# Altium schematic symbol library SamacSys.SchLib: 1311 symbols (part 9 of 14)
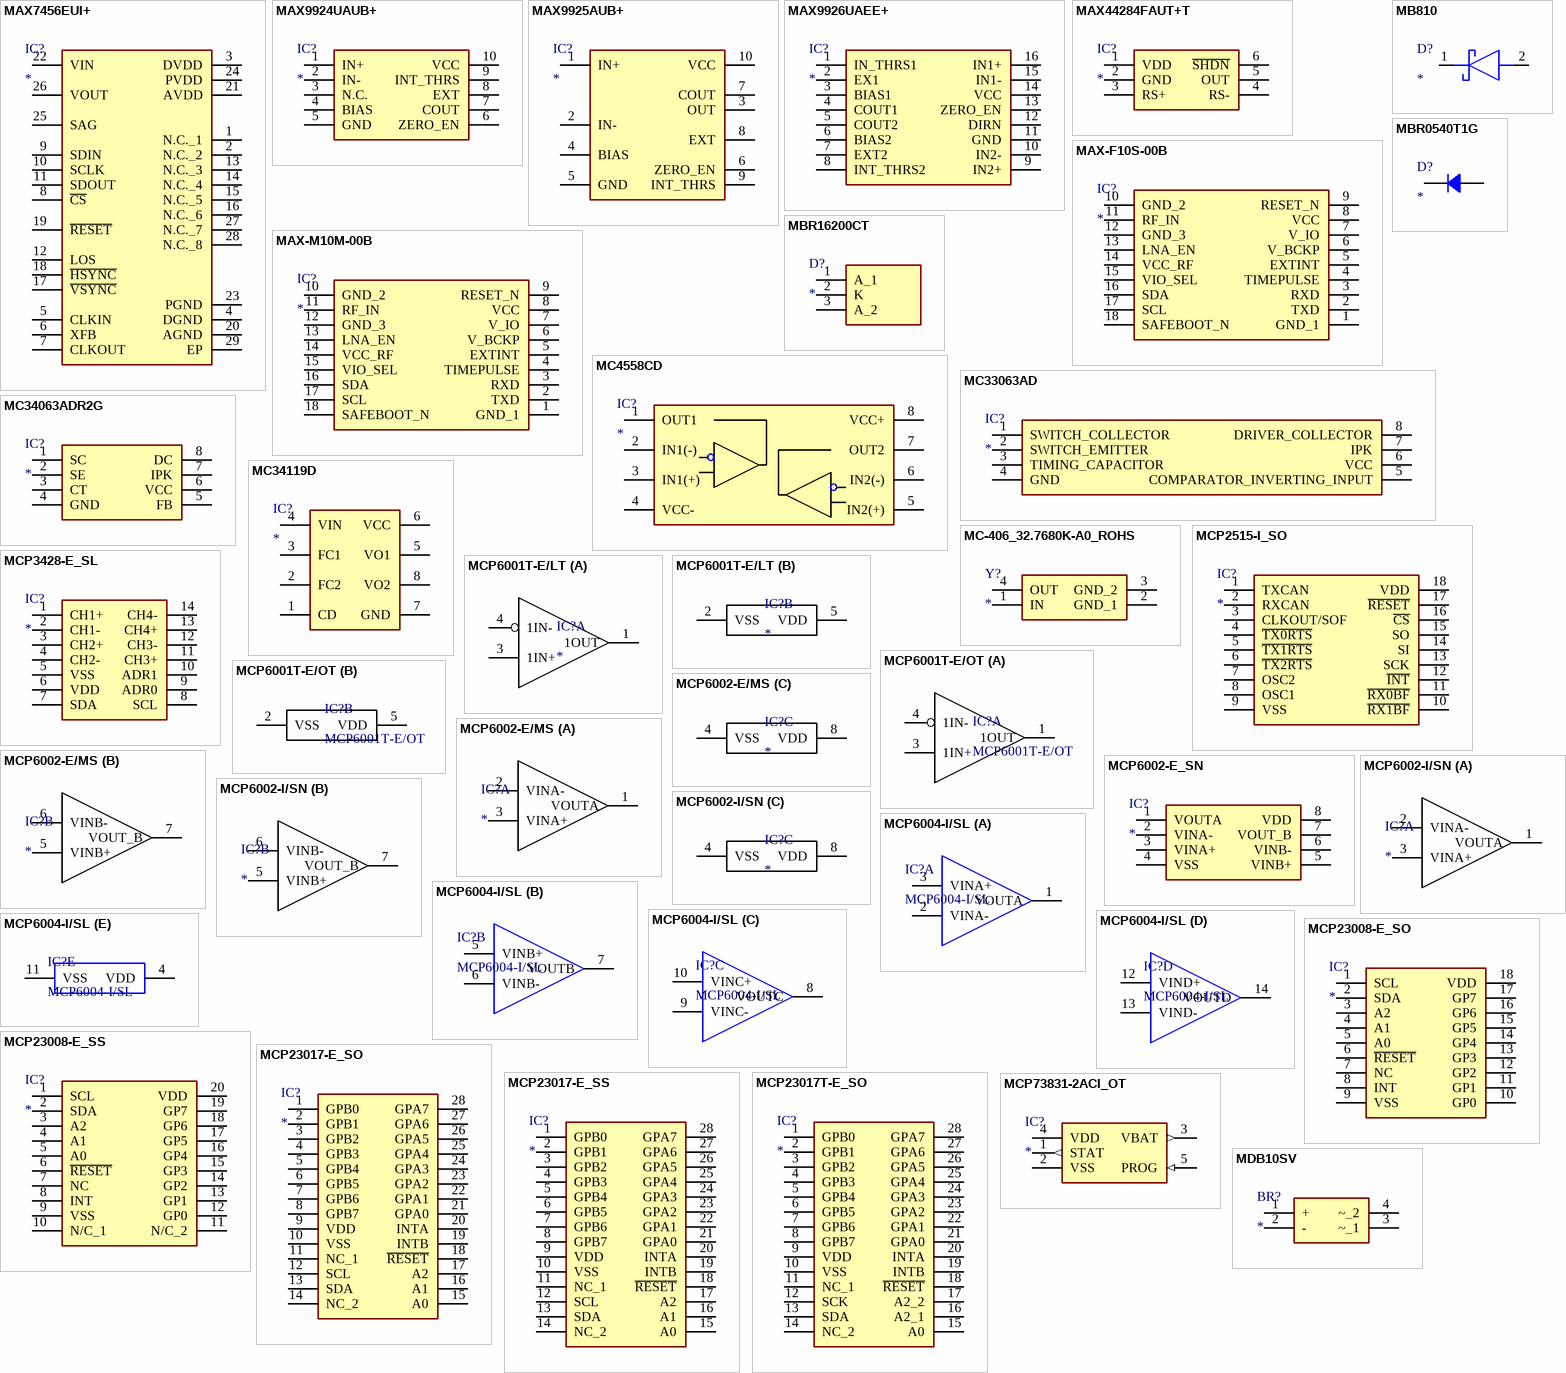
[diagram p58: symbols MAX7456EUI+ to MDB10SV]

## MAX9926UAEE+
designator IC?
Integrated Circuit; Manufacturer_Name: Analog Devices; Manufacturer_Part_Number: MAX9926UAEE+; Datasheet Link: https://datasheets.maximintegrated.com/en/ds/MAX9924-MAX9927.pdf; Height: 1.75mm; Mouser Part Number: 700-MAX9926UAEE; Mouser Price/Stock: https://www.mouser.co.uk/ProductDetail/Analog-Devices-Maxim-Integrated/MAX9926UAEE%2b?qs=CDqwynd4ZNrriQt4q8yT4w%3D%3D; Arrow Part Number: MAX9926UAEE+; Arrow Price/Stock: https://www.arrow.com/en/products/max9926uaee/maxim-integrated?region=nac
footprint SOP64P602X175-16N
pins: 1 IN_THRS1, 2 EX1, 3 BIAS1, 4 COUT1, 5 COUT2, 6 BIAS2, 7 EXT2, 8 INT_THRS2, 9 IN2+, 10 IN2-, 11 GND, 12 DIRN, 13 ZERO_EN, 14 VCC, 15 IN1-, 16 IN1+

## MAX44284FAUT+T
designator IC?
Integrated Circuit; Manufacturer_Name: Analog Devices; Manufacturer_Part_Number: MAX44284FAUT+T; Datasheet Link: https://datasheets.maximintegrated.com/en/ds/MAX44284.pdf; Height: 1.45mm; Arrow Part Number: MAX44284FAUT+T; Arrow Price/Stock: https://www.arrow.com/en/products/max44284fautt/analog-devices?region=nac
footprint SOT95P280X145-6N
pins: 1 VDD, 2 GND, 3 RS+, 4 RS-, 5 OUT, 6 ~{SHDN}

## MAX-F10S-00B
designator IC?
Integrated Circuit; Manufacturer_Name: u-blox; Manufacturer_Part_Number: MAX-F10S-00B; Datasheet Link: https://www.mouser.ph/ProductDetail/u-blox/MAX-F10S-00B?qs=By6Nw2ByBD2CW%252Biwf2Kjow%3D%3D; Height: 2.7mm
footprint MAXF10S00B (Footprint not found)
pins: 1 GND_1, 2 TXD, 3 RXD, 4 TIMEPULSE, 5 EXTINT, 6 V_BCKP, 7 V_IO, 8 VCC, 9 RESET_N, 10 GND_2, 11 RF_IN, 12 GND_3, 13 LNA_EN, 14 VCC_RF, 15 VIO_SEL, 16 SDA, 17 SCL, 18 SAFEBOOT_N

## MAX-M10M-00B
designator IC?
Integrated Circuit; Manufacturer_Name: u-blox; Manufacturer_Part_Number: MAX-M10M-00B; Datasheet Link: https://content.u-blox.com/sites/default/files/documents/MAX-M10M_IntegrationManual_UBX-22038241.pdf; Height: 2.7mm; Mouser Part Number: 377-MAX-M10M-00B; Mouser Price/Stock: https://www.mouser.co.uk/ProductDetail/u-blox/MAX-M10M-00B?qs=A6eO%252BMLsxmQGh8%2FJ1ZmexA%3D%3D
footprint MAXM10M00B
pins: 1 GND_1, 2 TXD, 3 RXD, 4 TIMEPULSE, 5 EXTINT, 6 V_BCKP, 7 V_IO, 8 VCC, 9 RESET_N, 10 GND_2, 11 RF_IN, 12 GND_3, 13 LNA_EN, 14 VCC_RF, 15 VIO_SEL, 16 SDA, 17 SCL, 18 SAFEBOOT_N

## MB810
designator D?
Schottky Diode; Manufacturer_Name: PANJIT; Manufacturer_Part_Number: MB810; Datasheet Link: https://www.panjit.com.tw/en/Product/downloadPDF/MB810; Height: 2.62mm
footprint DIOM7959X262N
pins: 1 K, 2 A

## MBR0540T1G
designator D?
Diode; Manufacturer_Name: onsemi; Manufacturer_Part_Number: MBR0540T1G; Datasheet Link: http://www.onsemi.com/pub/Collateral/MBR0540T1-D.PDF; Height: 1.35mm; Mouser Part Number: 863-MBR0540T1G; Mouser Price/Stock: https://www.mouser.co.uk/ProductDetail/onsemi/MBR0540T1G?qs=3JMERSakebqeY0cO5%252BUPCQ%3D%3D; Arrow Part Number: MBR0540T1G; Arrow Price/Stock: https://www.arrow.com/en/products/mbr0540t1g/on-semiconductor?region=nac
footprint SOD3716X135N
pins: 1, 2 12

## MBR16200CT
designator D?
Schottky Diode; Manufacturer_Name: PANJIT; Manufacturer_Part_Number: MBR16200CT; Datasheet Link: https://www.panjit.com.tw/en/Product/downloadPDF/MBR16200CT; Height: 5mm
footprint TO254P500X1026X2147-3P
pins: 1 A_1, 2 K, 3 A_2

## MC4558CD
designator IC?
Integrated Circuit; Manufacturer_Name: STMicroelectronics; Manufacturer_Part_Number: MC4558CD; Datasheet Link: https://componentsearchengine.com/Datasheets/2/MC4558CD.pdf; Height: 1.75mm; Mouser Part Number: 511-MC4558CD; Mouser Price/Stock: https://www.mouser.co.uk/ProductDetail/STMicroelectronics/MC4558CD?qs=vqk%252BPKT8fSwaXkSAspcf7w%3D%3D; Arrow Part Number: MC4558CD; Arrow Price/Stock: https://www.arrow.com/en/products/mc4558cd/stmicroelectronics
footprint SOIC127P600X175-8N
pins: 1 OUT1, 2 IN1(-), 3 IN1(+), 4 VCC-, 5 IN2(+), 6 IN2(-), 7 OUT2, 8 VCC+

## MC33063AD
designator IC?
Integrated Circuit; Manufacturer_Name: Texas Instruments; Manufacturer_Part_Number: MC33063AD; Datasheet Link: http://www.ti.com/lit/gpn/mc33063a; Height: 1.75mm; Mouser Part Number: 595-MC33063AD; Mouser Price/Stock: https://www.mouser.co.uk/ProductDetail/Texas-Instruments/MC33063AD?qs=paYhMW8qfisiajeCWlaWEQ%3D%3D; Arrow Part Number: MC33063AD; Arrow Price/Stock: https://www.arrow.com/en/products/mc33063ad/texas-instruments?region=nac
footprint SOIC127P600X175-8N
pins: 1 SWITCH_COLLECTOR, 2 SWITCH_EMITTER, 3 TIMING_CAPACITOR, 4 GND, 5 COMPARATOR_INVERTING_INPUT, 6 VCC, 7 IPK, 8 DRIVER_COLLECTOR

## MC34063ADR2G
designator IC?
Integrated Circuit; Manufacturer_Name: onsemi; Manufacturer_Part_Number: MC34063ADR2G; Datasheet Link: https://www.onsemi.com/pub/Collateral/MC34063A-D.PDF; Height: 1.75mm; Mouser Part Number: 863-MC34063ADR2G; Mouser Price/Stock: https://www.mouser.co.uk/ProductDetail/onsemi/MC34063ADR2G?qs=dFKnUM%2FquJbf5lc6maZo6Q%3D%3D; Arrow Part Number: MC34063ADR2G; Arrow Price/Stock: https://www.arrow.com/en/products/mc34063adr2g/on-semiconductor?region=nac
footprint SOIC127P600X175-8N
pins: 1 SC, 2 SE, 3 CT, 4 GND, 5 FB, 6 VCC, 7 IPK, 8 DC

## MC34119D
designator IC?
Integrated Circuit; Manufacturer_Name: onsemi; Manufacturer_Part_Number: MC34119D; Height: 1.75mm
footprint SOIC127P600X175-8N
pins: 1 CD, 2 FC2, 3 FC1, 4 VIN, 5 VO1, 6 VCC, 7 GND, 8 VO2

## MC-406_32.7680K-A0_ROHS
designator Y?
Crystal or Oscillator; Manufacturer_Name: Epson Timing; Manufacturer_Part_Number: MC-406 32.7680K-A0:ROHS; Datasheet Link: https://componentsearchengine.com/Datasheets/1/MC-406 32.7680K-A0_ROHS.pdf; Height: 3.6mm; Mouser Part Number: 732-MC406-32.7KA0R; Mouser Price/Stock: https://www.mouser.co.uk/ProductDetail/Epson-Timing/MC-406-32.7680K-A0ROHS?qs=CU9taR8hkvYYgurnXSUAFA%3D%3D; Arrow Part Number: MC-406 32.7680K-A0:ROHS; Arrow Price/Stock: https://www.arrow.com/en/products/mc-406-32.7680k-a0rohs/epson-electronics-america
footprint MC406327680KA0ROHS
pins: 1 IN, 2 GND_1, 3 GND_2, 4 OUT

## MCP2515-I_SO
designator IC?
Integrated Circuit; Manufacturer_Name: Microchip; Manufacturer_Part_Number: MCP2515-I/SO; Datasheet Link: https://datasheet.datasheetarchive.com/originals/distributors/Datasheets-34/DSA-675138.pdf; Height: 2.65mm; Mouser Part Number: 579-MCP2515-I/SO; Mouser Price/Stock: https://www.mouser.co.uk/ProductDetail/Microchip-Technology/MCP2515-I-SO?qs=KwArPi4cUogGDbGnphOvtQ%3D%3D; Arrow Part Number: MCP2515-I/SO; Arrow Price/Stock: https://www.arrow.com/en/products/mcp2515-iso/microchip-technology?utm_currency=USD&region=europe
footprint SOIC127P1030X265-18N
pins: 1 TXCAN, 2 RXCAN, 3 CLKOUT/SOF, 4 ~{TX0RTS}, 5 ~{TX1RTS}, 6 ~{TX2RTS}, 7 OSC2, 8 OSC1, 9 VSS, 10 ~{RX1BF}, 11 ~{RX0BF}, 12 ~{INT}, 13 SCK, 14 SI, 15 SO, 16 ~{CS}, 17 ~{RESET}, 18 VDD

## MCP3428-E_SL
designator IC?
Integrated Circuit; Manufacturer_Name: Microchip; Manufacturer_Part_Number: MCP3428-E/SL; Datasheet Link: https://datasheet.datasheetarchive.com/originals/distributors/Datasheets-DGA17/1031155.pdf; Height: 1.75mm; Mouser Part Number: 579-MCP3428E/SL; Mouser Price/Stock: https://www.mouser.co.uk/ProductDetail/Microchip-Technology/MCP3428-E-SL?qs=icxrp76fIjD%2FAq4p7ExZpg%3D%3D; Arrow Part Number: MCP3428-E/SL; Arrow Price/Stock: https://www.arrow.com/en/products/mcp3428-esl/microchip-technology?region=nac
footprint SOIC127P600X175-14N
pins: 1 CH1+, 2 CH1-, 3 CH2+, 4 CH2-, 5 VSS, 6 VDD, 7 SDA, 8 SCL, 9 ADR0, 10 ADR1, 11 CH3+, 12 CH3-, 13 CH4+, 14 CH4-

## MCP6001T-E/LT
designator IC?
Integrated Circuit; Manufacturer_Name: Microchip; Manufacturer_Part_Number: MCP6001T-E/LT; Datasheet Link: https://datasheet.datasheetarchive.com/originals/distributors/SFDatasheet-4/sf-00090086.pdf; Height: 1.1mm; Mouser Part Number: 579-MCP6001T-E/LT; Mouser Price/Stock: https://www.mouser.co.uk/ProductDetail/Microchip-Technology/MCP6001T-E-LT?qs=npqfqDPP3%2FyPEQJ8celGXw%3D%3D; Arrow Part Number: MCP6001T-E/LT; Arrow Price/Stock: https://www.arrow.com/en/products/mcp6001t-elt/microchip-technology?region=nac
footprint SOT65P210X110-5N
part A pins: 1 1OUT, 3 1IN+, 4 1IN-
part B pins: 2 VSS, 5 VDD

## MCP6001T-E/OT
designator IC?
IC OPAMP R2R GP 1 CIRCUIT SOT23-5; Manufacturer_Name: Microchip; Manufacturer_Part_Number: MCP6001T-E/LT; Datasheet Link: https://datasheet.datasheetarchive.com/originals/distributors/SFDatasheet-4/sf-00090086.pdf; Height: 1.1mm; Mouser Part Number: 579-MCP6001T-E/LT; Mouser Price/Stock: https://www.mouser.co.uk/ProductDetail/Microchip-Technology/MCP6001T-E-LT?qs=npqfqDPP3%2FyPEQJ8celGXw%3D%3D; Arrow Part Number: MCP6001T-E/LT; Arrow Price/Stock: https://www.arrow.com/en/products/mcp6001t-elt/microchip-technology?region=nac
footprint SOT95P270X145-5N
part A pins: 1 1OUT, 3 1IN+, 4 1IN-
part B pins: 2 VSS, 5 VDD

## MCP6002-E/MS
designator IC?
Integrated Circuit, OP Amp; Manufacturer_Name: Microchip; Manufacturer_Part_Number: MCP6002-E/MS; Datasheet Link: https://datasheet.datasheetarchive.com/originals/distributors/Datasheets-304/55313.pdf; Height: 1.1mm; Mouser Part Number: 579-MCP6002-E/MS; Mouser Price/Stock: https://www.mouser.co.uk/ProductDetail/Microchip-Technology-Atmel/MCP6002-E-MS?qs=huzeVNXgovXv0kPjGdVLUA%3D%3D; Arrow Part Number: MCP6002-E/MS; Arrow Price/Stock: https://www.arrow.com/en/products/mcp6002-ems/microchip-technology?region=europe
footprint SOP65P490X110-8N
part A pins: 1 VOUTA, 2 VINA-, 3 VINA+
part B pins: 5 VINB+, 6 VINB-, 7 VOUT_B
part C pins: 4 VSS, 8 VDD

## MCP6002-E_SN
designator IC?
Integrated Circuit; Manufacturer_Name: Microchip; Manufacturer_Part_Number: MCP6002-E/SN; Datasheet Link: https://datasheet.datasheetarchive.com/originals/distributors/Datasheets-DGA24/1612149.pdf; Height: 1.75mm; Mouser Part Number: 579-MCP6002-E/SN; Mouser Price/Stock: https://www.mouser.co.uk/ProductDetail/Microchip-Technology/MCP6002-E-SN?qs=huzeVNXgovUiJ9mzyA%252B5pA%3D%3D; Arrow Part Number: MCP6002-E/SN; Arrow Price/Stock: https://www.arrow.com/en/products/mcp6002-esn/microchip-technology?region=nac
footprint SOIC127P600X175-8N
pins: 1 VOUTA, 2 VINA-, 3 VINA+, 4 VSS, 5 VINB+, 6 VINB-, 7 VOUT_B, 8 VDD

## MCP6002-I/SN
designator IC?
Integrated Circuit, OP Amp; Manufacturer_Name: Microchip; Manufacturer_Part_Number: MCP6002-E/MS; Datasheet Link: https://datasheet.datasheetarchive.com/originals/distributors/Datasheets-304/55313.pdf; Height: 1.1mm; Mouser Part Number: 579-MCP6002-E/MS; Mouser Price/Stock: https://www.mouser.co.uk/ProductDetail/Microchip-Technology-Atmel/MCP6002-E-MS?qs=huzeVNXgovXv0kPjGdVLUA%3D%3D; Arrow Part Number: MCP6002-E/MS; Arrow Price/Stock: https://www.arrow.com/en/products/mcp6002-ems/microchip-technology?region=europe
footprint SOIC127P600X170-8N
part A pins: 1 VOUTA, 2 VINA-, 3 VINA+
part B pins: 5 VINB+, 6 VINB-, 7 VOUT_B
part C pins: 4 VSS, 8 VDD

## MCP6004-I/SL
designator IC?
IC OP AMP 4CH R2R +3.3-5V; Manufacturer_Name: Microchip; Datasheet Link: https://datasheet.datasheetarchive.com/originals/distributors/Datasheets-DGA24/1612149.pdf; Height: 1.75mm; Manufacturer_Part_Number: MCP6004-I/SL; Mouser Part Number: 579-MCP6004-I/SL; Mouser Price/Stock: https://www.mouser.co.uk/ProductDetail/Microchip-Technology/MCP6004-I-SL?qs=n%2FfJlMG9rCZ2%2F%2FCryvZ52w%3D%3D; Arrow Part Number: MCP6004-I/SL; Arrow Price/Stock: https://www.arrow.com/en/products/mcp6004-isl/microchip-technology?region=nac
footprint SOIC127P600X175-14N
part A pins: 1 VOUTA, 2 VINA-, 3 VINA+
part B pins: 5 VINB+, 6 VINB-, 7 VOUTB
part C pins: 8 VOUTC, 9 VINC-, 10 VINC+
part D pins: 12 VIND+, 13 VIND-, 14 VOUTD
part E pins: 4 VDD, 11 VSS

## MCP23008-E_SO
designator IC?
Integrated Circuit; Manufacturer_Name: Microchip; Manufacturer_Part_Number: MCP23008-E/SO; Datasheet Link: https://datasheet.datasheetarchive.com/originals/distributors/SFDatasheet-4/sf-00090055.pdf; Height: 2.65mm; Mouser Part Number: 579-MCP23008-E/SO; Mouser Price/Stock: https://www.mouser.co.uk/ProductDetail/Microchip-Technology/MCP23008-E-SO?qs=Sez7gRs8XSWum74ZwQXTLw%3D%3D; Arrow Part Number: MCP23008-E/SO; Arrow Price/Stock: https://www.arrow.com/en/products/mcp23008-eso/microchip-technology?region=nac
footprint SOIC127P1030X265-18N
pins: 1 SCL, 2 SDA, 3 A2, 4 A1, 5 A0, 6 ~{RESET}, 7 NC, 8 INT, 9 VSS, 10 GP0, 11 GP1, 12 GP2, 13 GP3, 14 GP4, 15 GP5, 16 GP6, 17 GP7, 18 VDD

## MCP23008-E_SS
designator IC?
IC XPNDR 1.7MHZ I2C 20SSOP; Manufacturer_Name: Microchip; Manufacturer_Part_Number: MCP23008-E/SS; Datasheet Link: https://datasheet.datasheetarchive.com/originals/distributors/SFDatasheet-4/sf-00090055.pdf; Height: 2mm; Mouser Part Number: 579-MCP23008-E/SS; Mouser Price/Stock: https://www.mouser.co.uk/ProductDetail/Microchip-Technology/MCP23008-E-SS?qs=Sez7gRs8XSU%2FXF8up%2FiqvA%3D%3D; Arrow Part Number: MCP23008-E/SS; Arrow Price/Stock: https://www.arrow.com/en/products/mcp23008-ess/microchip-technology?region=nac
footprint SOP65P780X200-20N
pins: 1 SCL, 2 SDA, 3 A2, 4 A1, 5 A0, 6 ~{RESET}, 7 NC, 8 INT, 9 VSS, 10 N/C_1, 11 N/C_2, 12 GP0, 13 GP1, 14 GP2, 15 GP3, 16 GP4, 17 GP5, 18 GP6, 19 GP7, 20 VDD

## MCP23017-E_SO
designator IC?
Integrated Circuit; Manufacturer_Name: Microchip; Manufacturer_Part_Number: MCP23017-E/SO; Datasheet Link: https://datasheet.datasheetarchive.com/originals/distributors/SFDatasheet-4/sf-00090057.pdf; Height: 2.65mm; Mouser Part Number: 579-MCP23017-E/SO; Mouser Price/Stock: https://www.mouser.co.uk/ProductDetail/Microchip-Technology/MCP23017-E-SO?qs=usxtMOJb1Rz8hft7vV7YMQ%3D%3D; Arrow Part Number: MCP23017-E/SO; Arrow Price/Stock: https://www.arrow.com/en/products/mcp23017-eso/microchip-technology.html?utm_currency=USD&region=nac
footprint SOIC127P1030X265-28N
pins: 1 GPB0, 2 GPB1, 3 GPB2, 4 GPB3, 5 GPB4, 6 GPB5, 7 GPB6, 8 GPB7, 9 VDD, 10 VSS, 11 NC_1, 12 SCL, 13 SDA, 14 NC_2, 15 A0, 16 A1, 17 A2, 18 ~{RESET}, 19 INTB, 20 INTA, 21 GPA0, 22 GPA1, 23 GPA2, 24 GPA3, 25 GPA4, 26 GPA5, 27 GPA6, 28 GPA7

## MCP23017-E_SS
designator IC?
Integrated Circuit; Manufacturer_Name: Microchip; Manufacturer_Part_Number: MCP23017-E/SS; Datasheet Link: https://datasheet.datasheetarchive.com/originals/distributors/SFDatasheet-4/sf-00090057.pdf; Height: 2mm; Mouser Part Number: 579-MCP23017-E/SS; Mouser Price/Stock: https://www.mouser.co.uk/ProductDetail/Microchip-Technology/MCP23017-E-SS?qs=usxtMOJb1Ry4iqG%2FOK9gBg%3D%3D; Arrow Part Number: MCP23017-E/SS; Arrow Price/Stock: https://www.arrow.com/en/products/mcp23017-ess/microchip-technology.html?utm_currency=USD&region=europe
footprint SOP65P780X200-28N
pins: 1 GPB0, 2 GPB1, 3 GPB2, 4 GPB3, 5 GPB4, 6 GPB5, 7 GPB6, 8 GPB7, 9 VDD, 10 VSS, 11 NC_1, 12 SCL, 13 SDA, 14 NC_2, 15 A0, 16 A1, 17 A2, 18 ~{RESET}, 19 INTB, 20 INTA, 21 GPA0, 22 GPA1, 23 GPA2, 24 GPA3, 25 GPA4, 26 GPA5, 27 GPA6, 28 GPA7

## MCP23017T-E_SO
designator IC?
Integrated Circuit; Manufacturer_Name: Microchip; Manufacturer_Part_Number: MCP23017T-E/SO; Datasheet Link: http://ww1.microchip.com/downloads/en/DeviceDoc/20001952C.pdf; Height: 2.65mm; Mouser Part Number: 579-MCP23017T-E/SO; Mouser Price/Stock: https://www.mouser.co.uk/ProductDetail/Microchip-Technology/MCP23017T-E-SO?qs=usxtMOJb1RylPfT%252BJtgE3Q%3D%3D; Arrow Part Number: MCP23017T-E/SO; Arrow Price/Stock: https://www.arrow.com/en/products/mcp23017t-eso/microchip-technology?region=nac
footprint SOIC127P1030X265-28N
pins: 1 GPB0, 2 GPB1, 3 GPB2, 4 GPB3, 5 GPB4, 6 GPB5, 7 GPB6, 8 GPB7, 9 VDD, 10 VSS, 11 NC_1, 12 SCK, 13 SDA, 14 NC_2, 15 A0, 16 A2_1, 17 A2_2, 18 ~{RESET}, 19 INTB, 20 INTA, 21 GPA0, 22 GPA1, 23 GPA2, 24 GPA3, 25 GPA4, 26 GPA5, 27 GPA6, 28 GPA7

## MCP73831-2ACI_OT
designator IC?
Integrated Circuit; Manufacturer_Name: Microchip; Manufacturer_Part_Number: MCP73831-2ACI/OT; Datasheet Link: https://4donline.ihs.com/images/VipMasterIC/IC/MCHP/MCHPS05344/MCHPS05344-1.pdf?hkey=EF798316E3902B6ED9A73243A3159BB0; Height: 1.45mm
footprint SOT95P280X145-5N
pins: 1 STAT (out), 2 VSS (power), 3 VBAT (out), 4 VDD (power), 5 PROG (in)

## MDB10SV
designator BR?
Bridge Rectifier; Manufacturer_Name: ON Semiconductor; Manufacturer_Part_Number: MDB10SV; Datasheet Link: http://www.onsemi.com/pub/Collateral/MDB10SVJP-D.pdf; Height: 1.6mm; Mouser Part Number: 512-MDB10SV; Mouser Price/Stock: https://www.mouser.com/Search/Refine.aspx?Keyword=512-MDB10SV; Arrow Part Number: MDB10SV; Arrow Price/Stock: https://www.arrow.com/en/products/mdb10sv/on-semiconductor
footprint SOP400P650X160-4N
pins: 1 +, 2 -, 3 ~_1, 4 ~_2

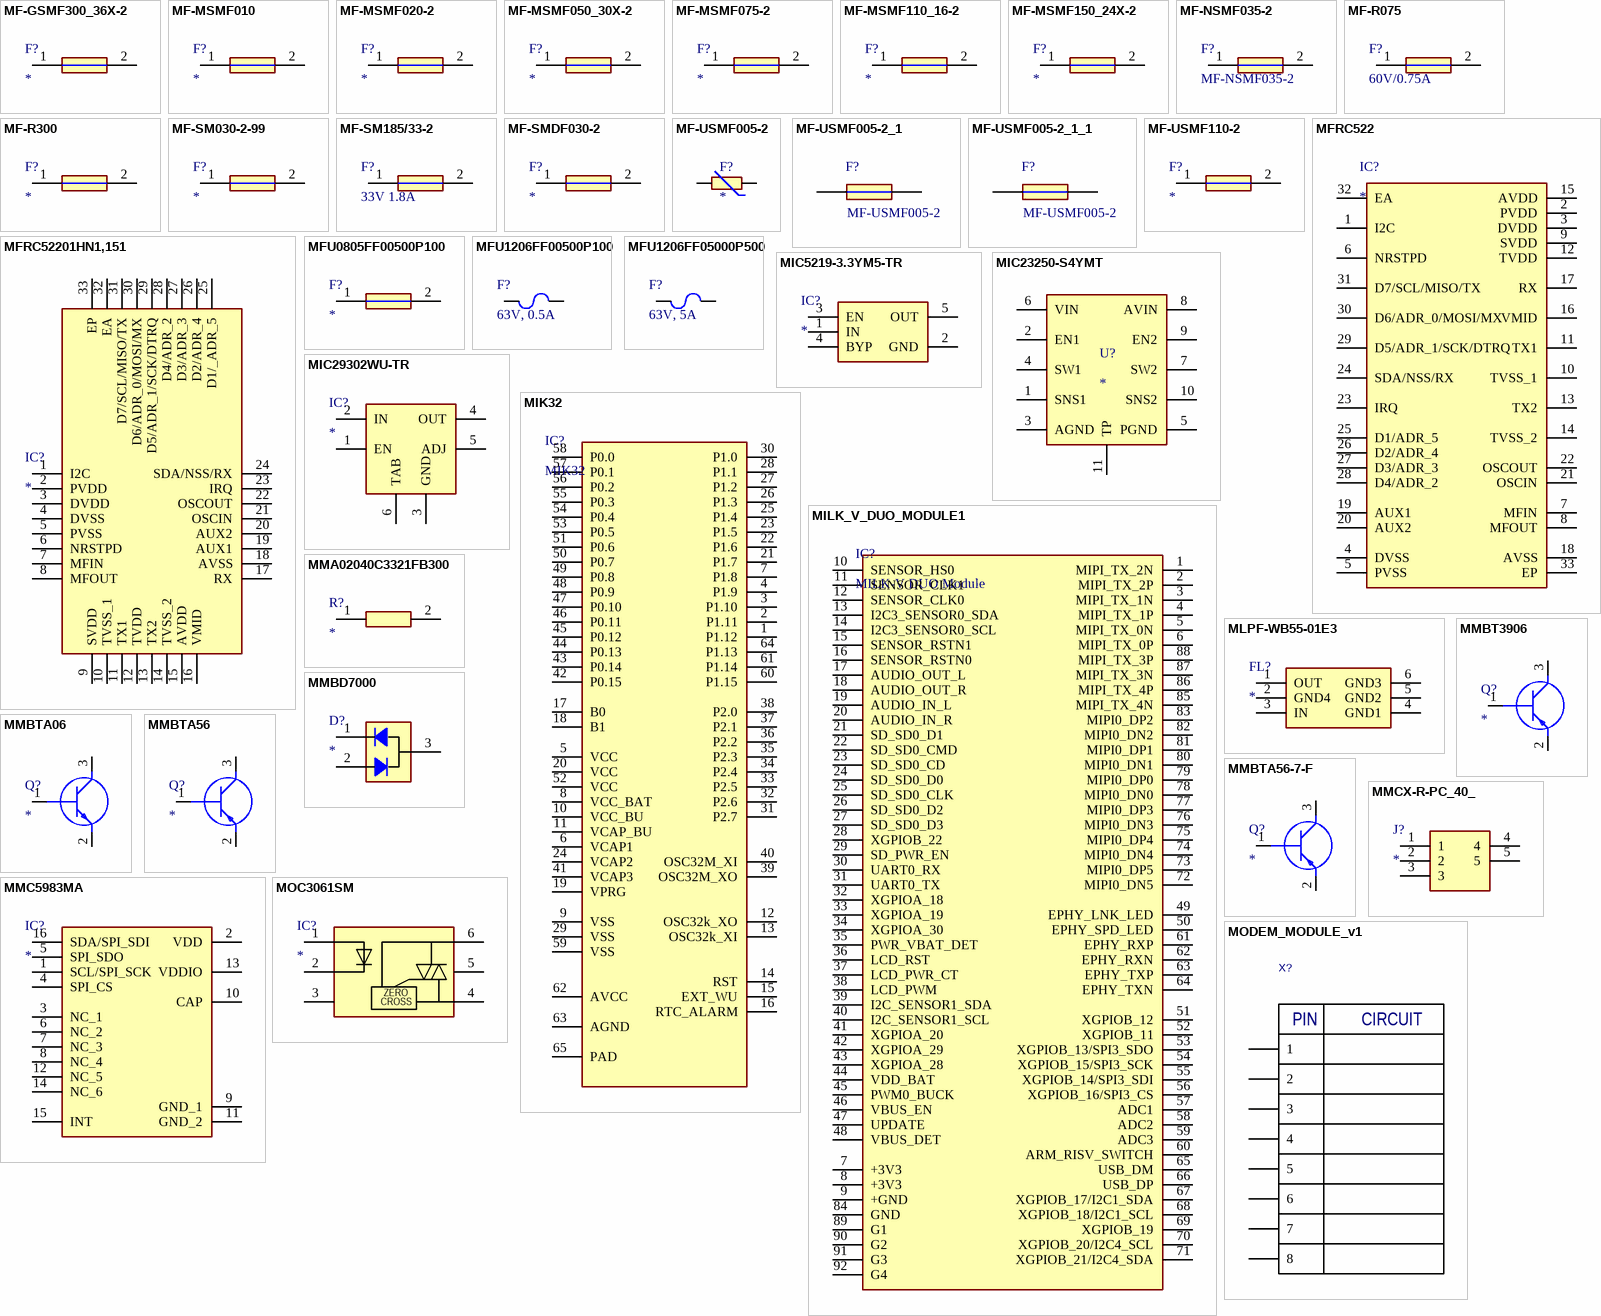
[diagram p30: symbols MF-GSMF300_36X-2 to MODEM_MODULE_v1]

## MF-GSMF300_36X-2
designator F?
Fuse; Manufacturer_Name: Bourns; Manufacturer_Part_Number: MF-GSMF300/36X-2; Datasheet Link: https://www.bourns.com/docs/Product-Datasheets/MF-GSMF.pdf; Height: 1.6mm; Mouser Part Number: 652-MF-GSMF300/36X-2; Mouser Price/Stock: https://www.mouser.co.uk/ProductDetail/Bourns/MF-GSMF300-36X-2?qs=EBDBlbfErPwCDMN8nNbjZA%3D%3D; Arrow Part Number: MF-GSMF300/36X-2; Arrow Price/Stock: https://www.arrow.com/en/products/mf-gsmf30036x-2/bourns?region=nac
footprint MFGSMF30036X2
pins: 1, 2

## MF-MSMF010
designator F?
Fuse; Manufacturer_Name: Bourns; Manufacturer_Part_Number: MF-MSMF010; Datasheet Link: https://www.bourns.com/docs/Product-Datasheets/mfmsmf.pdf; Height: 1.1mm
footprint FUSC4632X110N
pins: 1, 2

## MF-MSMF020-2
designator F?
Fuse; Manufacturer_Name: Bourns; Manufacturer_Part_Number: MF-MSMF020-2; Datasheet Link: https://datasheet.datasheetarchive.com/originals/distributors/Datasheets-7/DSA-122410.pdf; Height: 0.3mm; Mouser Part Number: 652-MF-MSMF020-2; Mouser Price/Stock: https://www.mouser.co.uk/ProductDetail/Bourns/MF-MSMF020-2?qs=YYkh393lUtjbPn24kFIUNQ%3D%3D; Arrow Part Number: MF-MSMF020-2; Arrow Price/Stock: https://www.arrow.com/en/products/mf-msmf020-2/bourns?utm_currency=USD&region=europe
footprint FUSC4632X30N
pins: 1, 2

## MF-MSMF050_30X-2
designator F?
Fuse; Manufacturer_Name: Bourns; Manufacturer_Part_Number: MF-MSMF050/30X-2; Datasheet Link: https://componentsearchengine.com/Datasheets/1/MF-MSMF050_30X-2.pdf; Height: 0.85mm; Mouser Part Number: 652-MF-MSMF050/30X-2; Mouser Price/Stock: https://www.mouser.co.uk/ProductDetail/Bourns/MF-MSMF050-30X-2?qs=7LNk%2FT4eT0selfRLt1pNxQ%3D%3D; Arrow Part Number: MF-MSMF050/30X-2; Arrow Price/Stock: https://www.arrow.com/en/products/mf-msmf05030x-2/bourns?utm_currency=USD&region=nac
footprint FUSC4632X85N
pins: 1, 2

## MF-MSMF075-2
designator F?
Fuse; Manufacturer_Name: Bourns; Manufacturer_Part_Number: MF-MSMF075-2; Datasheet Link: https://www.bourns.com/pdfs/mfmsmf.pdf; Height: 0.85mm; Mouser Part Number: 652-MF-MSMF075-2; Mouser Price/Stock: https://www.mouser.co.uk/ProductDetail/Bourns/MF-MSMF075-2?qs=IoIjxgSWmn0VfZs9PqWlxA%3D%3D; Arrow Part Number: MF-MSMF075-2; Arrow Price/Stock: https://www.arrow.com/en/products/mf-msmf075-2/bourns?region=nac
footprint FUSC4632X85N
pins: 1, 2

## MF-MSMF110_16-2
designator F?
Fuse; Manufacturer_Name: Bourns; Manufacturer_Part_Number: MF-MSMF110/16-2; Datasheet Link: https://componentsearchengine.com/Datasheets/2/MF-MSMF110_16-2.pdf; Height: 0.85mm; Mouser Part Number: 652-MF-MSMF110/16-2; Mouser Price/Stock: https://www.mouser.co.uk/ProductDetail/Bourns/MF-MSMF110-16-2?qs=wksszfECgvir54ST3ixUHA%3D%3D; Arrow Part Number: MF-MSMF110/16-2; Arrow Price/Stock: https://www.arrow.com/en/products/mf-msmf11016-2/bourns?region=europe
footprint FUSC4632X85N
pins: 1, 2

## MF-MSMF150_24X-2
designator F?
Fuse; Manufacturer_Name: Bourns; Manufacturer_Part_Number: MF-MSMF150/24X-2; Datasheet Link: https://www.bourns.com/docs/Product-Datasheets/mfmsmf.pdf; Height: 1.6mm; Mouser Part Number: 652-MF-MSMF150/24X-2; Mouser Price/Stock: https://www.mouser.co.uk/ProductDetail/Bourns/MF-MSMF150-24X-2?qs=lpAV6hZbGAs42fzz5zPn3Q%3D%3D; Arrow Part Number: MF-MSMF150/24X-2; Arrow Price/Stock: https://www.arrow.com/en/products/mf-msmf15024x-2/bourns?utm_currency=USD&region=nac
footprint FUSC4632X160N
pins: 1, 2

## MF-NSMF035-2
designator F?
Fuse; Manufacturer_Name: Bourns; Datasheet Link: https://www.bourns.com/docs/Product-Datasheets/mfnsmf.pdf; Height: 0.85mm; Manufacturer_Part_Number: MF-NSMF035-2; Mouser Part Number: 652-MF-NSMF035-2; Mouser Price/Stock: https://www.mouser.co.uk/ProductDetail/Bourns/MF-NSMF035-2?qs=3eVyCPG4fwnHDrvs%2FGppSw%3D%3D; Arrow Part Number: MF-NSMF035-2; Arrow Price/Stock: https://www.arrow.com/en/products/mf-nsmf035-2/bourns?utm_currency=USD&region=nac
footprint FUSC3216X85N
pins: 1, 2

## MF-R075
designator F?, comment 60V/0.75А
Fuse, 60V 0.75А; Manufacturer_Name: Bourns; Manufacturer_Part_Number: MF-R075-2; Datasheet Link: https://www.arrow.com/en/products/mf-r075-2/bourns; Height: 16mm; Mouser Part Number: 652-MF-R075-2; Mouser Price/Stock: https://www.mouser.co.uk/ProductDetail/Bourns/MF-R075-2?qs=HO6k8Uo500m6jQOrX0b5vA%3D%3D; Arrow Part Number: MF-R075-2; Arrow Price/Stock: https://www.arrow.com/en/products/mf-r075-2/bourns?region=nac
footprint MFR0752
pins: 1, 2

## MF-R300
designator F?
Fuse; Manufacturer_Name: Bourns; Manufacturer_Part_Number: MF-R300; Datasheet Link: https://componentsearchengine.com/Datasheets/2/MF-R300.pdf; Height: 18.3mm; Mouser Part Number: 652-MFR300; Mouser Price/Stock: https://www.mouser.co.uk/ProductDetail/Bourns/MF-R300?qs=ub8qiV7bXkZu3ApF4%2FM3Fg%3D%3D; Arrow Part Number: MF-R300; Arrow Price/Stock: https://www.arrow.com/en/products/mf-r300/bourns?region=europe
footprint MFR300
pins: 1, 2

## MF-SM030-2-99
designator F?
Fuse; Manufacturer_Name: Bourns; Manufacturer_Part_Number: MF-SM030-2-99; Datasheet Link: https://www.bourns.com/pdfs/mfsm.pdf; Height: 3.18mm; Mouser Part Number: 652-MF-SM030-2-99; Mouser Price/Stock: https://www.mouser.co.uk/ProductDetail/Bourns/MF-SM030-2-99?qs=2G4irm%2FqADyJw3%2FoI%252B8iIA%3D%3D; Arrow Part Number: MF-SM030-2-99; Arrow Price/Stock: https://www.arrow.com/en/products/mf-sm030-2-99/bourns
footprint FUSC7454X318N
pins: 1, 2

## MF-SM185/33-2
designator F?, comment 33V 1.8A
Fuse, 33V 2A; Manufacturer_Name: Bourns; Manufacturer_Part_Number: MF-MSMF075-2; Datasheet Link: https://www.bourns.com/pdfs/mfmsmf.pdf; Height: 0.85mm; Mouser Part Number: 652-MF-MSMF075-2; Mouser Price/Stock: https://www.mouser.co.uk/ProductDetail/Bourns/MF-MSMF075-2?qs=IoIjxgSWmn0VfZs9PqWlxA%3D%3D; Arrow Part Number: MF-MSMF075-2; Arrow Price/Stock: https://www.arrow.com/en/products/mf-msmf075-2/bourns?region=nac
footprint FUSC8860X400N (Footprint not found)
pins: 1, 2

## MF-SMDF030-2
designator F?
PTC RESET FUSE 60V 300MA 2018; Manufacturer_Name: Bourns; Manufacturer_Part_Number: MF-SMDF030-2; Datasheet Link: https://componentsearchengine.com/Datasheets/1/MF-SMDF030-2.pdf; Height: 1.09mm; Mouser Part Number: 652-MF-SMDF030-2; Mouser Price/Stock: https://www.mouser.co.uk/ProductDetail/Bourns/MF-SMDF030-2?qs=4IMUa6xHmlqUXzpZ5sgw6Q%3D%3D; Arrow Part Number: MF-SMDF030-2; Arrow Price/Stock: https://www.arrow.com/en/products/mf-smdf030-2/bourns
footprint MFSMDF0302
pins: 1, 2

## MF-USMF005-2
designator F?
Fuse, Resettable, Fast Acting, 10A, Sz 1210, 0.135x0.11x0.043, SMT, 30VDC, PCB | Bourns MF-USMF005-2; SnapEDA_Link: https://www.snapeda.com/parts/MF-USMF005-2/Bourns/view-part/?ref=snap; Package: 1210 Bourns Inc.; Value: *; MF: Bourns; MP: MF-USMF005-2; Check_prices: https://www.snapeda.com/parts/MF-USMF005-2/Bourns/view-part/?ref=eda
footprint FUSE_MF-USMF005-2
pins: 1, 2

## MF-USMF005-2_1
designator F?, comment MF-USMF005-2
Fuse, PTC, Resettable, SMD, 1210, 50mA Bourns 0.05A Surface Mount Resettable Fuse, 30 V; Geometry.Height: 1.1mm; Manufacturer_Name: Bourns; Manufacturer_Part_Number: MF-USMF005-2; Mouser Part Number: 652-MF-USMF005-2; Mouser Price/Stock: https://www.mouser.co.uk/ProductDetail/Bourns/MF-USMF005-2?qs=k5V78Jg%2Feq5dOnJgyb2oFg%3D%3D; Arrow Part Number: MF-USMF005-2; Arrow Price/Stock: https://www.arrow.com/en/products/mf-usmf005-2/bourns?utm_currency=USD&region=nac; Datasheet Link: https://componentsearchengine.com/Datasheets/2/MF-USMF005-2.pdf
footprint FUSC3226X110N
pins: 1, 2

## MF-USMF005-2_1_1
designator F?, comment MF-USMF005-2
Fuse, PTC, Resettable, SMD, 1210, 50mA Bourns 0.05A Surface Mount Resettable Fuse, 30 V; Geometry.Height: 1.1mm; Manufacturer_Name: Bourns; Manufacturer_Part_Number: MF-USMF005-2; Mouser Part Number: 652-MF-USMF005-2; Mouser Price/Stock: https://www.mouser.co.uk/ProductDetail/Bourns/MF-USMF005-2?qs=k5V78Jg%2Feq5dOnJgyb2oFg%3D%3D; Arrow Part Number: MF-USMF005-2; Arrow Price/Stock: https://www.arrow.com/en/products/mf-usmf005-2/bourns?utm_currency=USD&region=nac; Datasheet Link: https://componentsearchengine.com/Datasheets/2/MF-USMF005-2.pdf
footprint FUSC3226X110N
pins: 1, 2

## MF-USMF110-2
designator F?
Fuse; Manufacturer_Name: Bourns; Manufacturer_Part_Number: MF-USMF110-2; Datasheet Link: https://www.arrow.com/en/products/mf-usmf110-2/bourns; Height: 0.85mm; Mouser Part Number: 652-MF-USMF110-2; Mouser Price/Stock: https://www.mouser.co.uk/ProductDetail/Bourns/MF-USMF110-2?qs=9FzDyaD7ZFDRIi%252Bgh%252BHt3w%3D%3D; Arrow Part Number: MF-USMF110-2; Arrow Price/Stock: https://www.arrow.com/en/products/mf-usmf110-2/bourns
footprint FUSC3226X85N
pins: 1, 2

## MFRC522
designator IC?
Integrated Circuit; Manufacturer_Name: NXP; Manufacturer_Part_Number: MFRC522; Datasheet Link: https://www.alldatasheet.com/datasheet-pdf/pdf/346105/NXP/MFRC522_10.html; Height: 1mm
footprint QFN50P500X500X100-33N-D
pins: 1 I2C, 2 PVDD, 3 DVDD, 4 DVSS, 5 PVSS, 6 NRSTPD, 7 MFIN, 8 MFOUT, 9 SVDD, 10 TVSS_1, 11 TX1, 12 TVDD, 13 TX2, 14 TVSS_2, 15 AVDD, 16 VMID, 17 RX, 18 AVSS, 19 AUX1, 20 AUX2, 21 OSCIN, 22 OSCOUT, 23 IRQ, 24 SDA/NSS/RX, 25 D1/ADR_5, 26 D2/ADR_4, 27 D3/ADR_3, 28 D4/ADR_2, 29 D5/ADR_1/SCK/DTRQ, 30 D6/ADR_0/MOSI/MX, 31 D7/SCL/MISO/TX, 32 EA, 33 EP

## MFRC52201HN1,151
designator IC?
Integrated Circuit; Manufacturer_Name: NXP; Manufacturer_Part_Number: MFRC52201HN1,151; Datasheet Link: https://4donline.ihs.com/images/VipMasterIC/IC/PHGL/PHGL-S-A0001050489/PHGL-S-A0001050489-1.pdf?hkey=EF798316E3902B6ED9A73243A3159BB0; Height: 1mm
footprint QFN50P500X500X100-33N-D
pins: 1 I2C, 2 PVDD, 3 DVDD, 4 DVSS, 5 PVSS, 6 NRSTPD, 7 MFIN, 8 MFOUT, 9 SVDD, 10 TVSS_1, 11 TX1, 12 TVDD, 13 TX2, 14 TVSS_2, 15 AVDD, 16 VMID, 17 RX, 18 AVSS, 19 AUX1, 20 AUX2, 21 OSCIN, 22 OSCOUT, 23 IRQ, 24 SDA/NSS/RX, 25 D1/_ADR_5, 26 D2/ADR_4, 27 D3/ADR_3, 28 D4/ADR_2, 29 D5/ADR_1/SCK/DTRQ, 30 D6/ADR_0/MOSI/MX, 31 D7/SCL/MISO/TX, 32 EA, 33 EP

## MFU0805FF00500P100
designator F?
Fuse; Manufacturer_Name: Vishay; Manufacturer_Part_Number: MFU0805FF00500P100; Datasheet Link: https://componentsearchengine.com/Datasheets/2/MFU0805FF00500P100.pdf; Height: 0.55mm; Mouser Part Number: 594-MFU0805FF00500P1; Mouser Price/Stock: https://www.mouser.co.uk/ProductDetail/Vishay-Beyschlag/MFU0805FF00500P100?qs=oI046glRuru%2F1tLHYz8V8Q%3D%3D; Arrow Part Number: MFU0805FF00500P100; Arrow Price/Stock: https://www.arrow.com/en/products/mfu0805ff00500p100/vishay
footprint FUSC2012X55N
pins: 1, 2

## MFU1206FF00500P100
designator F?, comment 63V, 0.5A
Fuse, 1206, 63V, 0.5A; Manufacturer_Name: Vishay; Manufacturer_Part_Number: MFU1206FF00500P100; Datasheet Link: http://www.vishay.com/docs/28747/mfuserie.pdf; Height: 0.65mm; Mouser Part Number: 594-MFU1206FF00500P1; Mouser Price/Stock: https://www.mouser.co.uk/ProductDetail/Vishay-Beyschlag/MFU1206FF00500P100?qs=oI046glRurs9%2FzbQ%2Fl2sBw%3D%3D; Arrow Part Number: MFU1206FF00500P100; Arrow Price/Stock: https://www.arrow.com/en/products/mfu1206ff00500p100/vishay?region=nac
footprint FUSE 1206_3216 0.6MM (Chip Fuse 1.5A AC 63V DC, 2-Leads, Body 3.10x1.55mm, IPC Medium Densitym)
pins: 1, 2

## MFU1206FF05000P500
designator F?, comment 63V, 5A
Fuse, 1206, 63V, 5A; Manufacturer_Name: Vishay; Manufacturer_Part_Number: MFU1206FF05000P500; Datasheet Link: https://componentsearchengine.com/Datasheets/2/MFU0805FF00500P100.pdf; Height: 0.55mm; Mouser Part Number: 594-MFU0805FF00500P1; Mouser Price/Stock: https://www.mouser.co.uk/ProductDetail/Vishay-Beyschlag/MFU0805FF00500P100?qs=oI046glRuru%2F1tLHYz8V8Q%3D%3D; Arrow Part Number: MFU1206FF05000P500; Arrow Price/Stock: https://www.arrow.com/en/products/MFU1206FF05000P500/vishay
footprint FUSE 1206_3216 0.6MM (Chip Fuse 1.5A AC 63V DC, 2-Leads, Body 3.10x1.55mm, IPC Medium Densitym)
pins: 1, 2

## MIC5219-3.3YM5-TR
designator IC?
Integrated Circuit; Manufacturer_Name: Microchip; Manufacturer_Part_Number: MIC5219-3.3YM5-TR; Datasheet Link: http://www.microchip.com/mymicrochip/filehandler.aspx?ddocname=en579712; Height: 1.3mm; Mouser Part Number: 998-MIC5219-3.3YM5TR; Mouser Price/Stock: https://www.mouser.co.uk/ProductDetail/Microchip-Technology-Micrel/MIC5219-33YM5-TR?qs=U6T8BxXiZAWojkIJMtSJlw%3D%3D; Arrow Part Number: MIC5219-3.3YM5-TR; Arrow Price/Stock: https://www.arrow.com/en/products/mic5219-3.3ym5-tr/microchip-technology?region=nac
footprint SOT95P280X130-5N
pins: 1 IN, 2 GND, 3 EN, 4 BYP, 5 OUT

## MIC23250-S4YMT
designator U?
4MHz Dual 400mA Synchronous Buck Regulator; Manufacturer_Name: Microchip; Manufacturer_Part_Number: MIC23250-S4YMT; Datasheet Link: http://ww1.microchip.com/downloads/en/DeviceDoc/mic23250.pdf; Height: 0.55mm
footprint UDFN-10 (Microchip Thin MLF)
pins: 1 SNS1, 2 EN1, 3 AGND, 4 SW1, 5 PGND, 6 VIN, 7 SW2, 8 AVIN, 9 EN2, 10 SNS2, 11 TP

## MIC29302WU-TR
designator IC?
LDO, Adjustable, 3A; Manufacturer_Name: Microchip; Manufacturer_Part_Number: MIC29302WU-TR; Datasheet Link: http://ww1.microchip.com/downloads/en/DeviceDoc/20005685A.pdf; Height: 4.597mm; Mouser Part Number: 998-MIC29302WUTR; Mouser Price/Stock: https://www.mouser.co.uk/ProductDetail/Microchip-Technology/MIC29302WU-TR?qs=U6T8BxXiZAWR9%2FgJIuiMuA%3D%3D; Arrow Part Number: MIC29302WU-TR; Arrow Price/Stock: https://www.arrow.com/en/products/mic29302wu-tr/microchip-technology?region=nac
footprint MIC29302WUTR
pins: 1 EN, 2 IN, 3 GND, 4 OUT, 5 ADJ, 6 TAB

## MIK32
designator IC?
Integrated Circuit; Manufacturer_Name: AMUR; Datasheet Link: https://nc.mikron.ru/s/aXSRc8HdLAM2LLg/download; Height: 1.6mm; Manufacturer_Part_Number: MIK32
footprint QFN40P800X800X90-65N_MIK32
pins: 1 P1.12, 2 P1.11, 3 P1.10, 4 P1.9, 5 VCC, 6 VCAP1, 7 P1.8, 8 VCC_BAT, 9 VSS, 10 VCC_BU, 11 VCAP_BU, 12 OSC32k_XO, 13 OSC32k_XI, 14 RST, 15 EXT_WU, 16 RTC_ALARM, 17 B0, 18 B1, 19 VPRG, 20 VCC, 21 P1.7, 22 P1.6, 23 P1.5, 24 VCAP2, 25 P1.4, 26 P1.3, 27 P1.2, 28 P1.1, 29 VSS, 30 P1.0, 31 P2.7, 32 P2.6, 33 P2.5, 34 P2.4, 35 P2.3, 36 P2.2, 37 P2.1, 38 P2.0, 39 OSC32M_XO, 40 OSC32M_XI, 41 VCAP3, 42 P0.15, 43 P0.14, 44 P0.13, 45 P0.12, 46 P0.11, 47 P0.10, 48 P0.9, 49 P0.8, 50 P0.7, 51 P0.6, 52 VCC, 53 P0.5, 54 P0.4, 55 P0.3, 56 P0.2, 57 P0.1, 58 P0.0, 59 VSS, 60 P1.15, 61 P1.14, 62 AVCC, 63 AGND, 64 P1.13, 65 PAD

## MILK_V_DUO_MODULE1
designator IC?, comment MILK-V DUO Module
SOM MILK-V DUO Module; Manufacturer_Name: AMUR; Manufacturer_Part_Number: MIK32; Datasheet Link: https://nc.mikron.ru/s/aXSRc8HdLAM2LLg/download; Height: 1.6mm
footprint MILK-V
pins: 1 MIPI_TX_2N, 2 MIPI_TX_2P, 3 MIPI_TX_1N, 4 MIPI_TX_1P, 5 MIPI_TX_0N, 6 MIPI_TX_0P, 7 +3V3, 8 +3V3, 9 +GND, 10 SENSOR_HS0, 11 SENSOR_CLK1, 12 SENSOR_CLK0, 13 I2C3_SENSOR0_SDA, 14 I2C3_SENSOR0_SCL, 15 SENSOR_RSTN1, 16 SENSOR_RSTN0, 17 AUDIO_OUT_L, 18 AUDIO_OUT_R, 19 AUDIO_IN_L, 20 AUDIO_IN_R, 21 SD_SD0_D1, 22 SD_SD0_CMD, 23 SD_SD0_CD, 24 SD_SD0_D0, 25 SD_SD0_CLK, 26 SD_SD0_D2, 27 SD_SD0_D3, 28 XGPIOB_22, 29 SD_PWR_EN, 30 UART0_RX, 31 UART0_TX, 32 XGPIOA_18, 33 XGPIOA_19, 34 XGPIOA_30, 35 PWR_VBAT_DET, 36 LCD_RST, 37 LCD_PWR_CT, 38 LCD_PWM, 39 I2C_SENSOR1_SDA, 40 I2C_SENSOR1_SCL, 41 XGPIOA_20, 42 XGPIOA_29, 43 XGPIOA_28, 44 VDD_BAT, 45 PWM0_BUCK, 46 VBUS_EN, 47 UPDATE, 48 VBUS_DET, 49 EPHY_LNK_LED, 50 EPHY_SPD_LED, 51 XGPIOB_12, 52 XGPIOB_11, 53 XGPIOB_13/SPI3_SDO, 54 XGPIOB_15/SPI3_SCK, 55 XGPIOB_14/SPI3_SDI, 56 XGPIOB_16/SPI3_CS, 57 ADC1, 58 ADC2, 59 ADC3, 60 ARM_RISV_SWITCH, 61 EPHY_RXP, 62 EPHY_RXN, 63 EPHY_TXP, 64 EPHY_TXN, 65 USB_DM, 66 USB_DP, 67 XGPIOB_17/I2C1_SDA, 68 XGPIOB_18/I2C1_SCL, 69 XGPIOB_19, 70 XGPIOB_20/I2C4_SCL, 71 XGPIOB_21/I2C4_SDA, 72 MIPI0_DN5, 73 MIPI0_DP5, 74 MIPI0_DN4, 75 MIPI0_DP4, 76 MIPI0_DN3, 77 MIPI0_DP3, 78 MIPI0_DN0, 79 MIPI0_DP0, 80 MIPI0_DN1, 81 MIPI0_DP1, 82 MIPI0_DN2, 83 MIPI0_DP2, 84 GND, 85 MIPI_TX_4N, 86 MIPI_TX_4P, 87 MIPI_TX_3N, 88 MIPI_TX_3P, 89 G1, 90 G2, 91 G3, 92 G4

## MLPF-WB55-01E3
designator FL?
Filter; Manufacturer_Name: STMicroelectronics; Manufacturer_Part_Number: MLPF-WB55-01E3; Datasheet Link: https://www.st.com/resource/en/datasheet/mlpf-wb55-01e3.pdf; Height: 0.7mm; Mouser Part Number: 511-MLPF-WB55-01E3; Mouser Price/Stock: https://www.mouser.co.uk/ProductDetail/STMicroelectronics/MLPF-WB55-01E3?qs=vLWxofP3U2xV%2FkxL9PmCDA%3D%3D; Arrow Part Number: MLPF-WB55-01E3; Arrow Price/Stock: https://www.arrow.com/en/products/mlpf-wb55-01e3/stmicroelectronics?region=nac
footprint MLPFWB5501E3
pins: 1 OUT, 2 GND4, 3 IN, 4 GND1, 5 GND2, 6 GND3

## MMA02040C3321FB300
designator R?
Resistor; Manufacturer_Name: Vishay; Manufacturer_Part_Number: MMA02040C3321FB300; Datasheet Link: https://datasheet.datasheetarchive.com/originals/distributors/DKDS-23/453161.pdf; Mouser Part Number: 594-MMA02040C3321FB3; Mouser Price/Stock: https://www.mouser.co.uk/ProductDetail/Vishay-Beyschlag/MMA02040C3321FB300?qs=YmMt7wOBEV7gsVIrtGr5Rw%3D%3D; Arrow Part Number: MMA02040C3321FB300; Arrow Price/Stock: https://www.arrow.com/en/products/mma02040c3321fb300/vishay
footprint MMA0204_1
pins: 1, 2

## MMBD7000
designator D?
Diode; Manufacturer_Name: onsemi; Manufacturer_Part_Number: MMBD7000; Datasheet Link: https://www.onsemi.com/download/data-sheet/pdf/MMBD7000-D.pdf; Height: 1.2mm; Mouser Part Number: 512-MMBD7000; Mouser Price/Stock: https://www.mouser.co.uk/ProductDetail/onsemi-Fairchild/MMBD7000?qs=E58pcOqB2RJvzzSZ6FVA5Q%3D%3D; Arrow Part Number: MMBD7000; Arrow Price/Stock: https://www.arrow.com/en/products/mmbd7000/on-semiconductor?region=europe
footprint SOT95P240X120-3N
pins: 1 A, 2 K, 3 K/A

## MMBT3906
designator Q?
Transistor BJT PNP; Manufacturer_Name: NXP; Manufacturer_Part_Number: MMBT3906; Datasheet Link: https://datasheet.pas.partquest.com/images/VipMasterIC/IC/PIRS/PIRSS12749/PIRSS12749-1.pdf?hkey=61A2E4C270F0397D049F8F05BD4F1054; Height: 1.1mm; Mouser Part Number: N/A; Mouser Price/Stock: https://www.mouser.co.uk/ProductDetail/NXP-Semiconductors/MMBT3906?qs=55YtniHzbhA96dkd8h4s7Q%3D%3D
footprint SOT95P230X110-3N
pins: 1 B, 2 E, 3 C

## MMBTA06
designator Q?
Transistor BJT NPN; Manufacturer_Name: onsemi; Manufacturer_Part_Number: MMBTA06; Datasheet Link: http://www.onsemi.com/pub/Collateral/PZTA06-D.pdf; Height: 1.2mm; Mouser Part Number: 512-MMBTA06; Mouser Price/Stock: https://www.mouser.co.uk/ProductDetail/onsemi-Fairchild/MMBTA06?qs=UMEuL5FsraDNITJVR5yrvg%3D%3D; Arrow Part Number: MMBTA06; Arrow Price/Stock: https://www.arrow.com/en/products/mmbta06/on-semiconductor
footprint SOT95P240X120-3N
pins: 1 B, 2 E, 3 C

## MMBTA56
designator Q?
Transistor BJT PNP; Manufacturer_Name: PANJIT International Inc; Manufacturer_Part_Number: MMBTA56; Datasheet Link: https://www.panjit.com.tw/en/Product/downloadPDF/MMBTA56; Height: 1.1mm
footprint SOT95P240X110-3N
pins: 1 B, 2 E, 3 C

## MMBTA56-7-F
designator Q?
Transistor BJT PNP; Manufacturer_Name: Diodes Incorporated; Manufacturer_Part_Number: MMBTA56-7-F; Datasheet Link: https://www.diodes.com/assets/Datasheets/MMBTA55_MMBTA56.pdf; Height: 1.1mm; Mouser Part Number: 621-MMBTA56-F; Mouser Price/Stock: https://www.mouser.co.uk/ProductDetail/Diodes-Incorporated/MMBTA56-7-F?qs=%252BirgkK6WbZHZ3vYMnw8jtQ%3D%3D; Arrow Part Number: MMBTA56-7-F; Arrow Price/Stock: https://www.arrow.com/en/products/mmbta56-7-f/diodes-incorporated?region=nac
footprint SOT96P240X110-3N
pins: 1 B, 2 E, 3 C

## MMC5983MA
designator IC?
Integrated Circuit; Manufacturer_Name: MEMSIC; Manufacturer_Part_Number: MMC5983MA; Datasheet Link: https://www.mouser.com/datasheet/2/821/Memsic_09102019_MMC5983MA_Datasheet_Rev_A-1635338.pdf; Height: 1mm; Mouser Part Number: 438-MMC5983MA; Mouser Price/Stock: https://www.mouser.co.uk/ProductDetail/MEMSIC/MMC5983MA?qs=B6kkDfuK7%2FD5qasHMdEt2g%3D%3D; Arrow Part Number: MMC5983MA; Arrow Price/Stock: https://www.arrow.com/en/products/mmc5983ma/memsic?utm_currency=USD&region=europe
footprint MMC5983MA
pins: 1 SCL/SPI_SCK, 2 VDD, 3 NC_1, 4 SPI_CS, 5 SPI_SDO, 6 NC_2, 7 NC_3, 8 NC_4, 9 GND_1, 10 CAP, 11 GND_2, 12 NC_5, 13 VDDIO, 14 NC_6, 15 INT, 16 SDA/SPI_SDI

## MMCX-R-PC_40_
designator J?
Connector; Manufacturer_Name: Hirose; Manufacturer_Part_Number: MMCX-R-PC(40); Datasheet Link: https://www.hirose.com/product/document?clcode=CL0339-0005-8-40&productname=MMCX-R-PC(40)&series=MMCX&documenttype=2DDrawing&lang=en&documentid=0000965555; Height: 4.6mm; Mouser Part Number: 798-MMCX-R-PC(40); Mouser Price/Stock: https://www.mouser.co.uk/ProductDetail/Hirose-Connector/MMCX-R-PC40?qs=XQjbzJWzFPWEezvy%2FkLdHw%3D%3D
footprint MMCXRPC40
pins: 1, 2, 3, 4, 5

## MOC3061SM
designator IC?
Integrated Circuit; Manufacturer_Name: onsemi; Manufacturer_Part_Number: MOC3061SM; Datasheet Link: http://www.onsemi.com/pub/Collateral/MOC3163M-D.pdf; Height: 4.8mm; Mouser Part Number: 512-MOC3061SM; Mouser Price/Stock: https://www.mouser.co.uk/ProductDetail/onsemi-Fairchild/MOC3061SM?qs=6uASyQ2j9sc08gIKLo3reA%3D%3D; Arrow Part Number: MOC3061SM; Arrow Price/Stock: https://www.arrow.com/en/products/moc3061sm/on-semiconductor?region=europe
footprint SOP254P916X480-6N
pins: 1 ANODE, 2 CATHODE, 3 N/C, 4 MAIN_TERM._1, 5 NC, 6 MAIN_TERM._2
text: ZERO; CROSS

## MODEM_MODULE_v1
designator X?, comment PBD-8  (value not drawn)
Connector; Manufacturer: Connfly; Part Number1: DS-1023-2x4; Part Number: PBD-8; System: Connector
footprint PBD-8_MODULE
pins: 1, 2, 3, 4, 5, 6, 7, 8
text: PIN; CIRCUIT

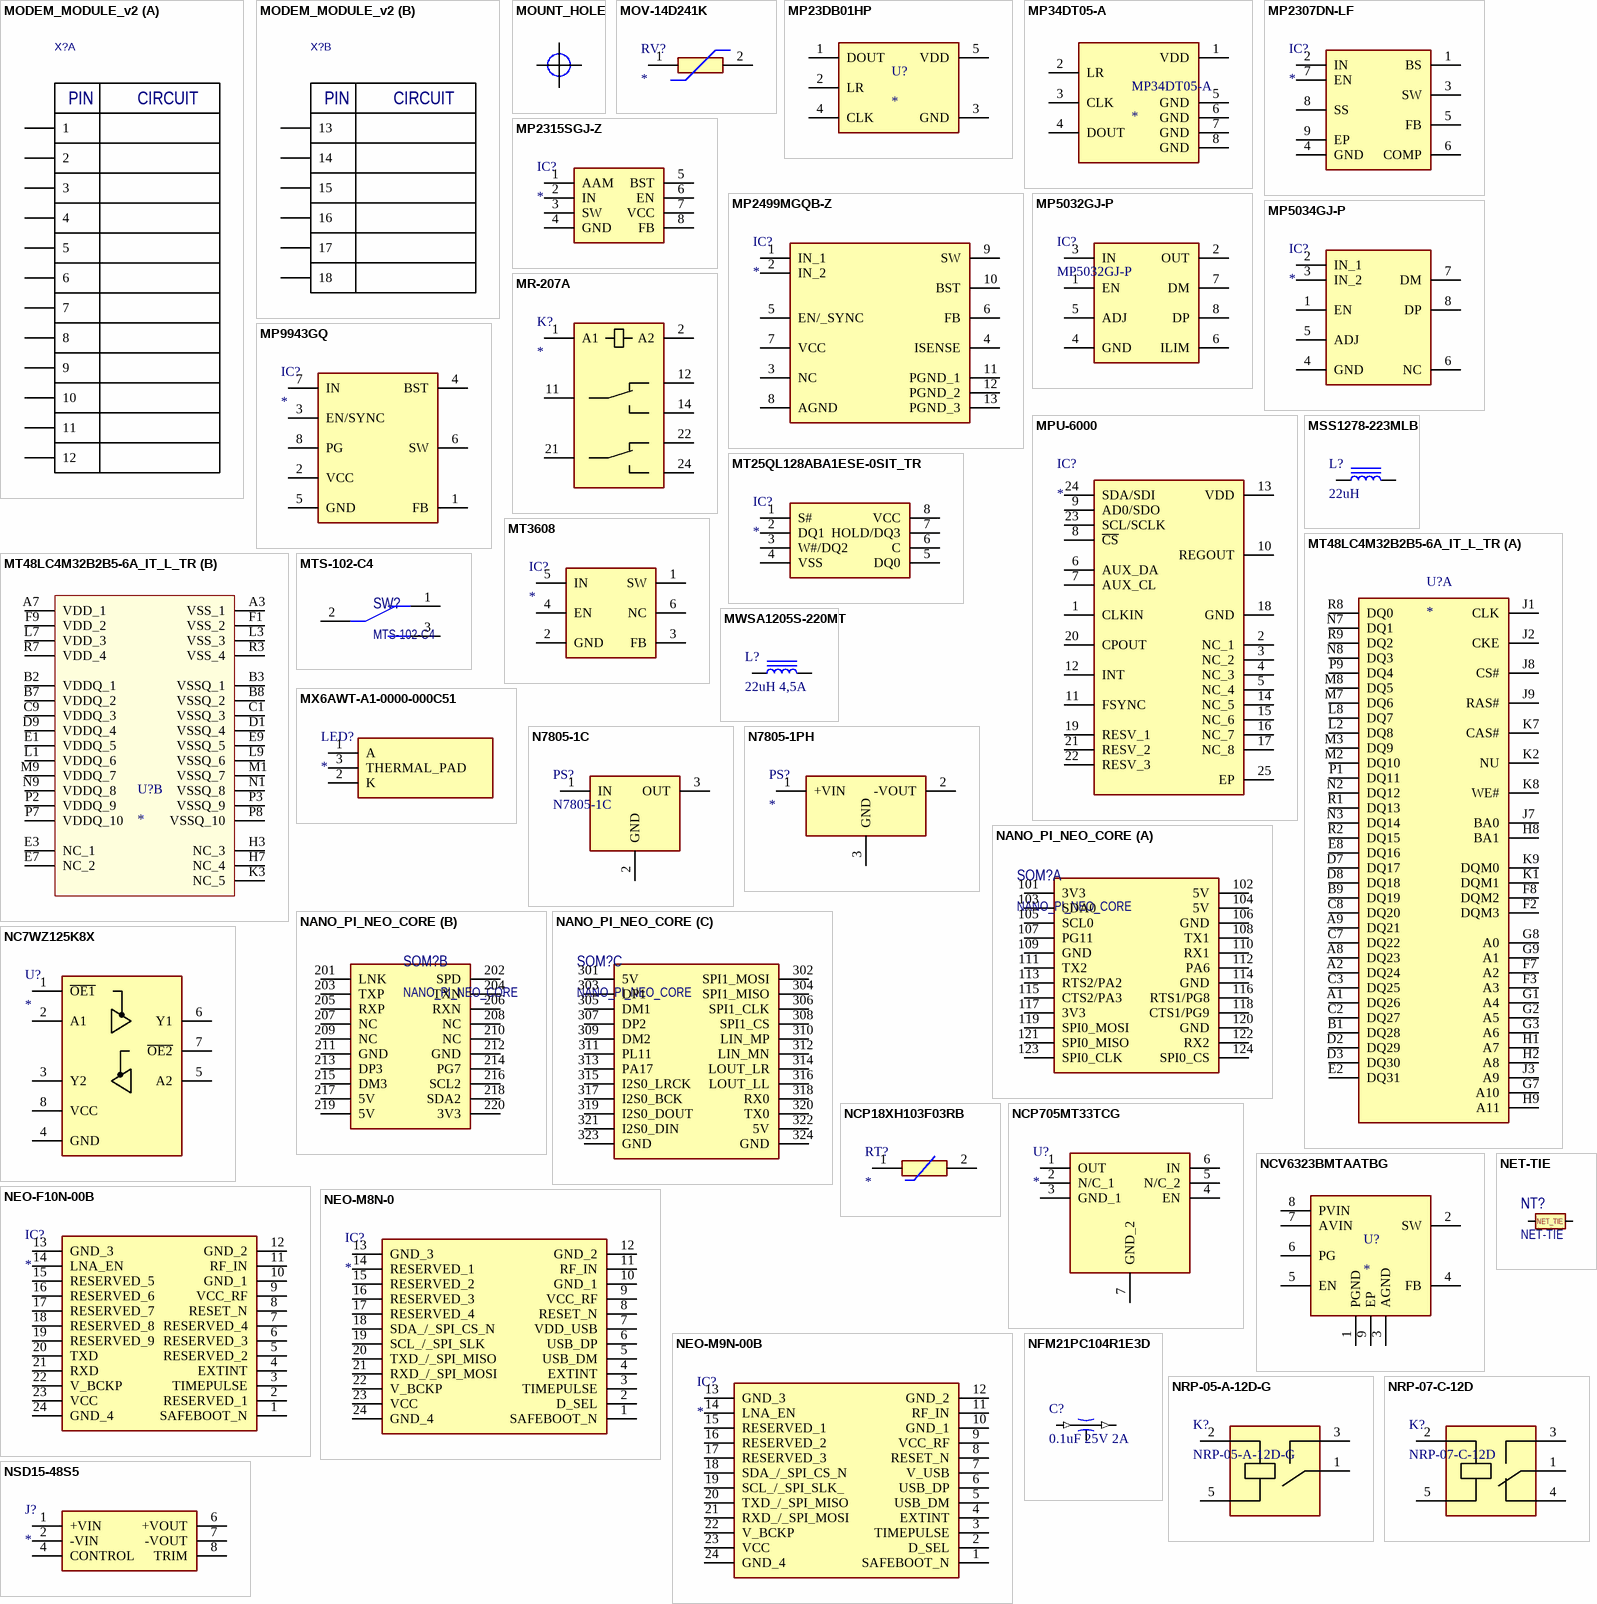
[diagram p31: symbols MODEM_MODULE_v2 to NSD15-48S5]

## MODEM_MODULE_v2
designator X?, comment PBD-12 + PBD-6  (value not drawn)
Connector; Manufacturer: Connfly; Part Number: PBD-8; Part Number1: DS-1023-2x4; System: Connector
footprint MODEM_MODULE_v2
part A pins: 1, 2, 3, 4, 5, 6, 7, 8, 9, 10, 11, 12
part B pins: 13, 14, 15, 16, 17, 18
part A text: PIN; CIRCUIT
part B text: PIN; CIRCUIT

## MOUNT_HOLE
designator MNT?  (value not drawn)  (no BOM)
Mount hole
footprint MOUNT_3.5mm (H3.5 / OUT7)
footprint MOUNT_3mm (H3/OUT6)
footprint MOUNT_4.5mm (H4.5 / OUT9)
footprint MOUNT_4mm (H4 / OUT9)

## MOV-14D241K
designator RV?
Varistor; Manufacturer_Name: Bourns; Manufacturer_Part_Number: MOV-14D241K; Datasheet Link: https://datasheet.datasheetarchive.com/originals/distributors/Datasheets-DGA16/858708.pdf; Height: 20mm; Mouser Part Number: 652-MOV-14D241K; Mouser Price/Stock: https://www.mouser.co.uk/ProductDetail/Bourns/MOV-14D241K?qs=CQ3B1E%252BbPs2CiKalQN9uMQ%3D%3D; Arrow Part Number: MOV-14D241K; Arrow Price/Stock: https://www.arrow.com/en/products/mov-14d241k/bourns
footprint MOV14D241K
pins: 1, 2

## MP23DB01HP
designator U?
MEMS Microphone
footprint MP23DB01HP
pins: 1 DOUT, 2 LR, 3 GND, 4 CLK, 5 VDD

## MP34DT05-A
designator MP34DT05-A
Microphone; Manufacturer_Name: STMicroelectronics; Manufacturer_Part_Number: MP34DT05-A; Datasheet Link: https://media.digikey.com/pdf/Data%20Sheets/ST%20Microelectronics%20PDFS/MP34DT01.pdf; Height: 1.1mm; Mouser Part Number: MP34DT05-A; Mouser Price/Stock: https://www.mouser.co.uk/ProductDetail/STMicroelectronics/MP34DT01?qs=%252BZOPz%252B2NLYX0JbkGIwERSA%3D%3D; Arrow Part Number: MP34DT05-A; Arrow Price/Stock: https://www.arrow.com/en/products/mp34dt01/stmicroelectronics
footprint MP34DT01
pins: 1 VDD, 2 LR, 3 CLK, 4 DOUT, 5 GND, 6 GND, 7 GND, 8 GND

## MP2307DN-LF
designator IC?
Integrated Circuit; Manufacturer_Name: Monolithic Power Systems (MPS); Manufacturer_Part_Number: MP2307DN-LF; Datasheet Link: https://componentsearchengine.com/Datasheets/1/MP2307DN-LF.pdf; Height: 1.7mm; Mouser Part Number: 946-MP2307DNLF; Mouser Price/Stock: https://www.mouser.com/Search/Refine.aspx?Keyword=946-MP2307DNLF
footprint MP2307DNLF
pins: 1 BS, 2 IN, 3 SW, 4 GND, 5 FB, 6 COMP, 7 EN, 8 SS, 9 EP

## MP2315SGJ-Z
designator IC?
Integrated Circuit; Manufacturer_Name: Monolithic Power Systems (MPS); Manufacturer_Part_Number: MP2315SGJ-Z; Datasheet Link: https://componentsearchengine.com/Datasheets/1/MP2315SGJ-Z.pdf; Height: 1mm; Mouser Part Number: 946-MP2315SGJ-Z; Mouser Price/Stock: https://www.mouser.co.uk/ProductDetail/Monolithic-Power-Systems-MPS/MP2315SGJ-Z?qs=Zwj7mHVHPHQK3n9ExaDQiw%3D%3D; Arrow Part Number: MP2315SGJ-Z; Arrow Price/Stock: https://www.arrow.com/en/products/mp2315sgj-z/monolithic-power-systems.html?utm_currency=USD&region=nac
footprint SOT65P280X100-8N
pins: 1 AAM, 2 IN, 3 SW, 4 GND, 5 BST, 6 EN, 7 VCC, 8 FB

## MP2499MGQB-Z
designator IC?
Integrated Circuit; Manufacturer_Name: Monolithic Power Systems (MPS); Manufacturer_Part_Number: MP2499MGQB-Z; Datasheet Link: https://www.monolithicpower.com/en/documentview/productdocument/index/version/2/document_type/Datasheet/lang/en/sku/MP2499M/; Height: 1mm; Mouser Part Number: 946-MP2499MGQB-Z; Mouser Price/Stock: https://www.mouser.co.uk/ProductDetail/Monolithic-Power-Systems-MPS/MP2499MGQB-Z?qs=ElWnhazmAO7FvyeUPRaEMA%3D%3D
footprint MP2499MGQBZ
pins: 1 IN_1, 2 IN_2, 3 NC, 4 ISENSE, 5 EN/_SYNC, 6 FB, 7 VCC, 8 AGND, 9 SW, 10 BST, 11 PGND_1, 12 PGND_2, 13 PGND_3

## MP5032GJ-P
designator IC?
Integrated Circuit; Manufacturer_Name: Monolithic Power Systems (MPS); Datasheet Link: https://componentsearchengine.com/Datasheets/1/MP5034GJ-P.pdf; Height: 1mm; Manufacturer_Part_Number: MP5032GJ-P; Mouser Part Number: 946-MP5032GJ-P; Mouser Price/Stock: https://www.mouser.com/Search/Refine.aspx?Keyword=946-MP5034GJ-P
footprint SOT65P280X100-8N
pins: 1 EN, 2 OUT, 3 IN, 4 GND, 5 ADJ, 6 ILIM, 7 DM, 8 DP

## MP5034GJ-P
designator IC?
Integrated Circuit; Manufacturer_Name: Monolithic Power Systems (MPS); Manufacturer_Part_Number: MP5034GJ-P; Datasheet Link: https://componentsearchengine.com/Datasheets/1/MP5034GJ-P.pdf; Height: 1mm; Mouser Part Number: 946-MP5034GJ-P; Mouser Price/Stock: https://www.mouser.com/Search/Refine.aspx?Keyword=946-MP5034GJ-P
footprint SOT65P280X100-8N
pins: 1 EN, 2 IN_1, 3 IN_2, 4 GND, 5 ADJ, 6 NC, 7 DM, 8 DP

## MP9943GQ
designator IC?
Integrated Circuit; Manufacturer_Name: Monolithic Power Systems (MPS); Manufacturer_Part_Number: MP9943GQ-P; Datasheet Link: https://www.monolithicpower.com/pub/media/document/MP9943_r1.1.pdf; Height: 1mm; Mouser Part Number: 946-MP9943GQ-P; Mouser Price/Stock: https://www.mouser.co.uk/ProductDetail/Monolithic-Power-Systems-MPS/MP9943GQ-P?qs=493kPxzlxfIUN%2FwqEBzqKg%3D%3D
footprint SON65P300X300X100-8N
pins: 1 FB, 2 VCC, 3 EN/SYNC, 4 BST, 5 GND, 6 SW, 7 IN, 8 PG

## MPU-6000
designator IC?
Integrated Circuit, Motion Processing Unit; Manufacturer_Name: TDK; Datasheet Link: https://product.tdk.com/system/files/dam/doc/product/sensor/mortion-inertial/imu/data_sheet/mpu-6000-datasheet1.pdf; Height: 0.95mm; Manufacturer_Part_Number: MPU-6000; Mouser Part Number: 410-MPU-6000; Mouser Price/Stock: https://www.mouser.co.uk/ProductDetail/TDK-InvenSense/MPU-6000?qs=u4fy%2FsgLU9NMLimeLRzXLA%3D%3D; Arrow Part Number: MPU-6000; Arrow Price/Stock: https://www.arrow.com/en/products/mpu-6000/invensense?region=nac
footprint QFN50P400X400X95-25N
pins: 1 CLKIN, 2 NC_1, 3 NC_2, 4 NC_3, 5 NC_4, 6 AUX_DA, 7 AUX_CL, 8 ~{CS}, 9 AD0/SDO, 10 REGOUT, 11 FSYNC, 12 INT, 13 VDD, 14 NC_5, 15 NC_6, 16 NC_7, 17 NC_8, 18 GND, 19 RESV_1, 20 CPOUT, 21 RESV_2, 22 RESV_3, 23 SCL/SCLK, 24 SDA/SDI, 25 EP

## MR-207A
designator K?
Relay; Manufacturer_Name: KIPPribor; Manufacturer_Part_Number: MR-207A; Datasheet Link: https://static.chipdip.ru/lib/620/DOC017620053.pdf; Height: 26mm
footprint MR-20X (Relay KIPPribor)
pins: 1 A1, 2 A2, 11 1_COM, 12 1_NC, 14 1_NO, 21 2_COM, 22 2_NC, 24 2_NO

## MSS1278-223MLB
designator L?, comment 22uH
SMT Inductor; Value: 22uH
footprint INDPM120120X805N
pins: 1, 2

## MT25QL128ABA1ESE-0SIT_TR
designator IC?
Integrated Circuit; Manufacturer_Name: Micron; Manufacturer_Part_Number: MT25QL128ABA1ESE-0SIT TR; Datasheet Link: https://datasheet.datasheetarchive.com/originals/distributors/DKDS42/DSANUWW0045431.pdf; Height: 2.16mm; Mouser Part Number: 340-224871-REEL; Mouser Price/Stock: https://www.mouser.co.uk/ProductDetail/Micron/MT25QL128ABA1ESE-0SIT-TR?qs=j%252B1pi9TdxUbjYudTgg%2Fegw%3D%3D; Arrow Part Number: MT25QL128ABA1ESE-0SIT TR; Arrow Price/Stock: https://www.arrow.com/en/products/mt25ql128aba1ese-0sittr/micron-technology?utm_currency=USD&region=nac
footprint SOIC127P790X216-8N
pins: 1 S#, 2 DQ1, 3 W#/DQ2, 4 VSS, 5 DQ0, 6 C, 7 HOLD/DQ3, 8 VCC

## MT48LC4M32B2B5-6A_IT_L_TR
designator U?
Integrated Circuit; Manufacturer_Name: Micron; Manufacturer_Part_Number: MT48LC4M32B2B5-6A IT:L TR; Datasheet Link: https://www.mouser.com/ProductDetail/Micron/MT48LC4M32B2B5-6A-ITL-TR?qs=taEdVNyAfdFf0ie6uqnOXg%3D%3D; Height: 1mm; Mouser Part Number: 340-128676-REEL; Mouser Price/Stock: https://www.mouser.com/Search/Refine.aspx?Keyword=340-128676-REEL; Arrow Part Number: MT48LC4M32B2B5-6A IT:L TR; Arrow Price/Stock: https://www.arrow.com/en/products/mt48lc4m32b2b5-6aitltr/micron-technology
footprint BGA90C80P9X15_800X1300X100
part A pins: A1 DQ26, A2 DQ24, A8 DQ23, A9 DQ21, B1 DQ28, B9 DQ19, C2 DQ27, C3 DQ25, C7 DQ22, C8 DQ20, D2 DQ29, D3 DQ30, D7 DQ17, D8 DQ18, E2 DQ31, E8 DQ16, F2 DQM3, F3 A3, F7 A2, F8 DQM2, G1 A4, G2 A5, G3 A6, G7 A10, G8 A0, G9 A1, H1 A7, H2 A8, H8 BA1, H9 A11, J1 CLK, J2 CKE, J3 A9, J7 BA0, J8 CS#, J9 RAS#, K1 DQM1, K2 NU, K7 CAS#, K8 WE#, K9 DQM0, L2 DQ8, L8 DQ7, M2 DQ10, M3 DQ9, M7 DQ6, M8 DQ5, N2 DQ12, N3 DQ14, N7 DQ1, N8 DQ3, P1 DQ11, P9 DQ4, R1 DQ13, R2 DQ15, R8 DQ0, R9 DQ2
part B pins: A3 VSS_1, A7 VDD_1, B2 VDDQ_1, B3 VSSQ_1, B7 VDDQ_2, B8 VSSQ_2, C1 VSSQ_3, C9 VDDQ_3, D1 VSSQ_4, D9 VDDQ_4, E1 VDDQ_5, E3 NC_1, E7 NC_2, E9 VSSQ_5, F1 VSS_2, F9 VDD_2, H3 NC_3, H7 NC_4, K3 NC_5, L1 VDDQ_6, L3 VSS_3, L7 VDD_3, L9 VSSQ_6, M1 VSSQ_7, M9 VDDQ_7, N1 VSSQ_8, N9 VDDQ_8, P2 VDDQ_9, P3 VSSQ_9, P7 VDDQ_10, P8 VSSQ_10, R3 VSS_4, R7 VDD_4

## MT3608
designator IC?
DCDC StepUp 2-24 to; Manufacturer_Name: Aerosemi; Manufacturer_Part_Number: MT3608; Datasheet Link: https://www.olimex.com/Products/Breadboarding/BB-PWR-3608/resources/MT3608.pdf; Height: 1.45mm
footprint SOT95P280X145-6N
pins: 1 SW, 2 GND, 3 FB, 4 EN, 5 IN, 6 NC

## MTS-102-C4
designator SW?
SWITCH, TOGGLE, 3P, ON-ON
footprint MTS-102-C4 (Footprint not found)
pins: 1, 2, 3

## MWSA1205S-220MT
designator L?, comment 22uH 4,5A
SMT Inductor; Manufacturer: Sunlord; Value: 22uH 4,5A; ComponentLink1Description: New link; ComponentLink1URL: *; JLCPCB Part Number: C408518
footprint MWSA1205S
pins: 1, 2

## MX6AWT-A1-0000-000C51
designator LED?
LED; Manufacturer_Name: CREE LED; Manufacturer_Part_Number: MX6AWT-A1-0000-000C51; Datasheet Link: https://www.cree.com/led-components/media/documents/XLampMX6.pdf; Mouser Part Number: 941-MX6AWTA1000C51; Mouser Price/Stock: https://www.mouser.co.uk/ProductDetail/Cree-Inc/MX6AWT-A1-0000-000C51?qs=UHyCXFkX5EzTYdQcfT1T2A%3D%3D; Arrow Part Number: MX6AWT-A1-0000-000C51; Arrow Price/Stock: https://www.arrow.com/en/products/mx6awt-a1-0000-000c51/cree
footprint MX6-PLCC
pins: 1 A, 2 K, 3 THERMAL_PAD

## N7805-1C
designator PS?
Power Supply, IN 8-36V, OUT 5V/1A
footprint N7805-1C
pins: 1 IN (power), 2 GND (power), 3 OUT (power)

## N7805-1PH
designator PS?
Power Supply; Manufacturer_Name: Mean Well; Manufacturer_Part_Number: N7805-1PH; Datasheet Link: https://www.meanwell.com/webapp/product/search.aspx?prod=N78; Height: 7.5mm; Mouser Part Number: 709-N7805-1PH; Mouser Price/Stock: https://www.mouser.co.uk/ProductDetail/MEAN-WELL/N7805-1PH?qs=7D1LtPJG0i2yQtENgJv8Bw%3D%3D
footprint N78051PH
pins: 1 +VIN, 2 -VOUT, 3 GND

## NANO_PI_NEO_CORE
designator SOM?
footprint NANOPINEOCORE
part A pins: 101 3V3, 102 5V, 103 SDA0, 104 5V, 105 SCL0, 106 GND, 107 PG11, 108 TX1, 109 GND, 110 RX1, 111 TX2, 112 PA6, 113 RTS2/PA2, 114 GND, 115 CTS2/PA3, 116 RTS1/PG8, 117 3V3, 118 CTS1/PG9, 119 SPI0_MOSI, 120 GND, 121 SPI0_MISO, 122 RX2, 123 SPI0_CLK, 124 SPI0_CS
part B pins: 201 LNK, 202 SPD, 203 TXP, 204 TXN, 205 RXP, 206 RXN, 207 NC, 208 NC, 209 NC, 210 NC, 211 GND, 212 GND, 213 DP3, 214 PG7, 215 DM3, 216 SCL2, 217 5V, 218 SDA2, 219 5V, 220 3V3
part C pins: 301 5V, 302 SPI1_MOSI, 303 DP1, 304 SPI1_MISO, 305 DM1, 306 SPI1_CLK, 307 DP2, 308 SPI1_CS, 309 DM2, 310 LIN_MP, 311 PL11, 312 LIN_MN, 313 PA17, 314 LOUT_LR, 315 I2S0_LRCK, 316 LOUT_LL, 317 I2S0_BCK, 318 RX0, 319 I2S0_DOUT, 320 TX0, 321 I2S0_DIN, 322 5V, 323 GND, 324 GND

## NC7WZ125K8X
designator U?
Integrated Circuit; Manufacturer_Name: onsemi; Manufacturer_Part_Number: NC7WZ125K8X; Datasheet Link: https://www.lcsc.com/datasheet/lcsc_datasheet_2410121813_onsemi-NC7WZ125K8X_C457629.pdf; Height: 0.9mm
footprint SOP50P310X90-8N
pins: 1 ~{OE1}, 2 A1, 3 Y2, 4 GND, 5 A2, 6 Y1, 7 ~{OE2}, 8 VCC

## NCP18XH103F03RB
designator RT?
Thermistor; Manufacturer_Name: Murata Electronics; Manufacturer_Part_Number: NCP18XH103F03RB; Datasheet Link: https://componentsearchengine.com/Datasheets/2/NCP18XH103F03RB.pdf; Height: 0.95mm; Mouser Part Number: 81-NCP18XH103F03RB; Mouser Price/Stock: https://www.mouser.co.uk/ProductDetail/Murata-Electronics/NCP18XH103F03RB?qs=k3rQb2PKXqkF9YvF09qsvw%3D%3D; Arrow Part Number: NCP18XH103F03RB; Arrow Price/Stock: https://www.arrow.com/en/products/ncp18xh103f03rb/murata-manufacturing?utm_currency=USD&region=europe
footprint THRMC1608X95N
pins: 1, 2

## NCP705MT33TCG
designator U?
Integrated Circuit; Manufacturer_Name: ON Semiconductor; Manufacturer_Part_Number: NCP705MT33TCG; Datasheet Link: http://www.onsemi.com/pub/Collateral/NCP705-D.PDF; Height: 0.8mm; Mouser Part Number: 863-NCP705MT33TCG; Mouser Price/Stock: https://www.mouser.co.uk/ProductDetail/ON-Semiconductor/NCP705MT33TCG?qs=l5F7KFZg3O5BAqXCIJeMgQ%3D%3D; Arrow Part Number: NCP705MT33TCG; Arrow Price/Stock: https://www.arrow.com/en/products/ncp705mt33tcg/on-semiconductor
footprint SON65P200X200X80-7N
pins: 1 OUT, 2 N/C_1, 3 GND_1, 4 EN, 5 N/C_2, 6 IN, 7 GND_2